# Altium footprint library Lcd.PcbLib: 1 footprints
Each footprint in its own frame and in the unit in brackets; x right, y up, seen from the top. Pads: shape width x height; smd on the part's side, far side on the other; paste and mask are expansions set on the pad; w line width, h text height; cw(c..) or ccw(c..) is an arc to the next point about the centre after c.
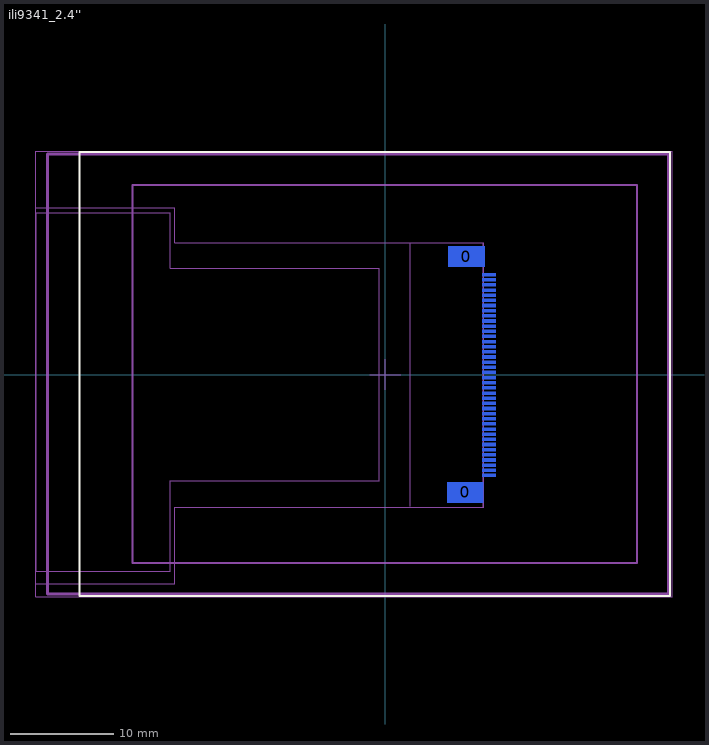
[diagram p0: the footprint, top view; thin cyan lines are the x and y axes]

## ili9341_2.4'' [mm]
pads (42):
  rect 3.5x2 smd far side: 0(7.774,-11.45) 0(7.874,11.45)
  rect 1.3x0.3 smd far side: 1(10.074,9.7) 2(10.074,9.2) 3(10.074,8.7) 4(10.074,8.2) 5(10.074,7.7) 6(10.074,7.2) 7(10.074,6.7) 8(10.074,6.2) 9(10.074,5.7) 10(10.074,5.2) 11(10.074,4.7) 12(10.074,4.2) 13(10.074,3.7) 14(10.074,3.2) 15(10.074,2.7) 16(10.074,2.2) 17(10.074,1.7) 18(10.074,1.2) 19(10.074,0.7) 20(10.074,0.2) 21(10.074,-0.3) 22(10.074,-0.8) 23(10.074,-1.3) 24(10.074,-1.8) 25(10.074,-2.3) 26(10.074,-2.8) 27(10.074,-3.3) 28(10.074,-3.8) 29(10.074,-4.3) 30(10.074,-4.8) 31(10.074,-5.3) 32(10.074,-5.8) 33(10.074,-6.3) 34(10.074,-6.8) 35(10.074,-7.3) 36(10.074,-7.8) 37(10.074,-8.3) 38(10.074,-8.8) 39(10.074,-9.3) 40(10.074,-9.8)
Top Overlay:
  lines w0.2: -29.7,-21.5 -29.7,21.6 27.65,21.6 27.65,-21.5 -29.7,-21.5
Bottom Overlay:
  circle w0.5: c11.3,11 r0.1
  lines w0.3: 10.15,-11.05 10.15,-12.75 4.25,-12.75 4.25,12.7 10.25,12.7 10.25,10.95
Mechanical 13:
  lines w0.2: -24.55,-18.3 -24.55,18.4 24.45,18.4 24.45,-18.3 -24.55,-18.3
  lines w0.3: -32.8,-21.3 27.5,-21.3 27.5,21.4 -32.8,21.4 -32.8,-21.3
Mechanical 14:
  lines w0.1: 2.4,-12.9 9.5,-12.9 9.5,12.8 2.4,12.8 2.4,-12.8 ; -33.9,-19.1 -20.9,-19.1 -20.9,-10.3 -0.6,-10.3 -0.6,10.3 -20.9,10.3 -20.9,15.7 -33.9,15.7 -33.9,-19.1
Mechanical 15:
  lines w0.1: -1.5,0 1.5,0 ; 0,-1.5 0,1.5 ; -33.95,-21.6 27.85,-21.6 27.85,21.7 -33.95,21.7 -33.95,-21.5 -33.95,-21.6
Mechanical 16:
  lines w0.1: -33.95,-20.3 -20.45,-20.3 -20.45,-12.9 9.55,-12.9 9.55,12.8 -20.45,12.8 -20.45,16.2 -33.95,16.2 -33.95,-20.3
3D body: height 3.45, standoff 0, extent -32.8,-21.3 27.5,21.4
3D body: height -0.5, standoff -1, extent -33.9,-19.1 4.2,15.7
3D body: height -0.5, standoff -1, extent -33.9,-19.1 -0.6,15.7
3D body "4-1734844-0.stp": height -0.38, standoff -2.28, extent 4.191,-13.125 10.391,13.125